# Altium footprint library SN74HC08N.PcbLib: 1 footprints
Each footprint in its own frame and in the unit in brackets; x right, y up, seen from the top. Pads: shape width x height; smd on the part's side, far side on the other; paste and mask are expansions set on the pad; w line width, h text height; cw(c..) or ccw(c..) is an arc to the next point about the centre after c.
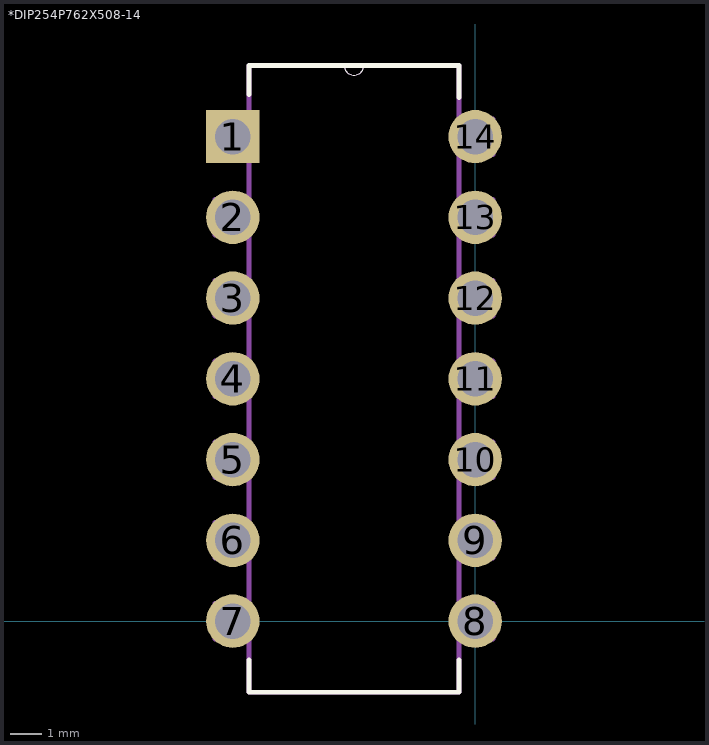
[diagram p0: the footprint, top view; thin cyan lines are the x and y axes]

## *DIP254P762X508-14 [mil]
pads (14):
  rect 66x66 hole 44: 1(-300,600)
  round 66 hole 44: 2(-300,500) 3(-300,400) 4(-300,300) 5(-300,200) 6(-300,100) 7(-300,0) 8(0,0) 9(0,100) 10(0,200) 11(0,300) 12(0,400) 13(0,500) 14(0,600)
Top Overlay:
  lines w0: -162,688 ccw(c-150,688) -138,688
  lines w6: -280,-48 -280,-88 -20,-88 -20,-48 ; -280,652 -280,688 -162,688 -138,688 -20,688 -20,648
Mechanical 13:
  lines w0: -162,688 ccw(c-150,688) -138,688 cw(c-150,688) -162,688
  lines w6: -322,-22 -280,-22 ; -322,-22 -322,22 ; -322,-22 -280,-22 ; -322,-22 -322,22 ; -322,22 -280,22 ; -322,22 -280,22 ; -322,78 -280,78 ; -322,78 -322,122 ; -322,78 -280,78 ; -322,78 -322,122 ; -322,122 -280,122 ; -322,122 -280,122 ; -322,178 -280,178 ; -322,178 -322,222 ; -322,178 -280,178 ; -322,178 -322,222 ; -322,222 -280,222 ; -322,222 -280,222 ; -322,278 -280,278 ; -322,278 -322,322 ; -322,278 -280,278 ; -322,278 -322,322 ; -322,322 -280,322 ; -322,322 -280,322 ; -322,378 -280,378 ; -322,378 -322,422 ; -322,378 -280,378 ; -322,378 -322,422 ; -322,422 -280,422 ; -322,422 -280,422 ; -322,478 -280,478 ; -322,478 -322,522 ; -322,478 -280,478 ; -322,478 -322,522 ; -322,522 -280,522 ; -322,522 -280,522 ; -322,578 -280,578 ; -322,578 -322,622 ; -322,578 -280,578 ; -322,578 -322,622 ; -322,622 -280,622 ; -322,622 -280,622 ; -280,-88 -280,688 ; -280,-88 -20,-88 ; -280,-88 -280,688 ; -280,-88 -20,-88 ; -280,-22 -280,22 ; -280,-22 -280,22 ; -280,78 -280,122 ; -280,78 -280,122 ; -280,178 -280,222 ; -280,178 -280,222 ; -280,278 -280,322 ; -280,278 -280,322 ; -280,378 -280,422 ; -280,378 -280,422 ; -280,478 -280,522 ; -280,478 -280,522 ; -280,578 -280,622 ; -280,578 -280,622 ; -280,688 -162,688 ; -280,688 -162,688 ; -162,688 -138,688 ; -162,688 -138,688 ; -138,688 -20,688 ; -138,688 -20,688 ; -20,-88 -20,688 ; -20,-88 -20,688 ; -20,-22 22,-22 ; -20,-22 -20,22 ; -20,-22 22,-22 ; -20,-22 -20,22 ; -20,22 22,22 ; -20,22 22,22 ; -20,78 22,78 ; -20,78 -20,122 ; -20,78 22,78 ; -20,78 -20,122 ; -20,122 22,122 ; -20,122 22,122 ; -20,178 22,178 ; -20,178 -20,222 ; -20,178 22,178 ; -20,178 -20,222 ; -20,222 22,222 ; -20,222 22,222 ; -20,278 22,278 ; -20,278 -20,322 ; -20,278 22,278 ; -20,278 -20,322 ; -20,322 22,322 ; -20,322 22,322 ; -20,378 22,378 ; -20,378 -20,422 ; -20,378 22,378 ; -20,378 -20,422 ; -20,422 22,422 ; -20,422 22,422 ; -20,478 22,478 ; -20,478 -20,522 ; -20,478 22,478 ; -20,478 -20,522 ; -20,522 22,522 ; -20,522 22,522 ; -20,578 22,578 ; -20,578 -20,622 ; -20,578 22,578 ; -20,578 -20,622 ; -20,622 22,622 ; -20,622 22,622 ; 22,-22 22,22 ; 22,-22 22,22 ; 22,78 22,122 ; 22,78 22,122 ; 22,178 22,222 ; 22,178 22,222 ; 22,278 22,322 ; 22,278 22,322 ; 22,378 22,422 ; 22,378 22,422 ; 22,478 22,522 ; 22,478 22,522 ; 22,578 22,622 ; 22,578 22,622